# EAGLE library part USB_TO_SERIAL_ADAPTER (library hsa_stm32_discovery_board)
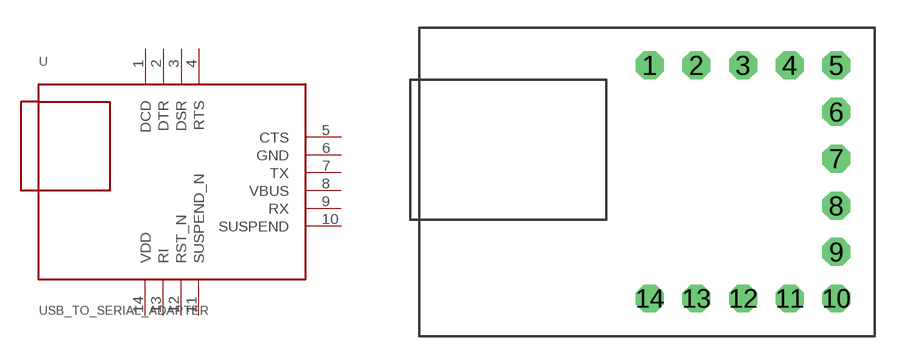
[diagram p4: symbol with the pads of USB_TO_SERIAL; footprint USB_TO_SERIAL]

Designator prefix -

## USB_TO_SERIAL_ADAPTER  [USB_TO_SERIAL]
1  DCD
2  DTR
3  DSR
4  RTS
5  CTS
6  GND
7  TX
8  VBUS
9  RX
10  SUSPEND
11  SUSPEND_N
12  RST_N
13  RI
14  VDD

## Footprint USB_TO_SERIAL (pad centres in mm)
drill 1.016 octagon: 1 12.54,14.75; 2 15.08,14.75; 3 17.62,14.75; 4 20.16,14.75; 5 22.7,14.75; 6 22.7,12.21; 7 22.7,9.67; 8 22.7,7.1; 9 22.7,4.59; 10 22.7,2.05; 11 20.16,2.05; 12 17.62,2.05; 13 15.08,2.05; 14 12.54,2.05